# EAGLE library part MAX3267CSA+ (library MAX3267CSA+)
The MAX3266 is a transimpedance preamplifier for 1.25Gbps local area network (LAN) fiber optic receivers. The circuit features 200nA input-referred noise, 920MHz bandwidth, and 1mA input overload. Source: Datasheet <https://www.analog.com/media/en/technical-documentation/data-sheets/MAX3266-MAX3267.pdf>
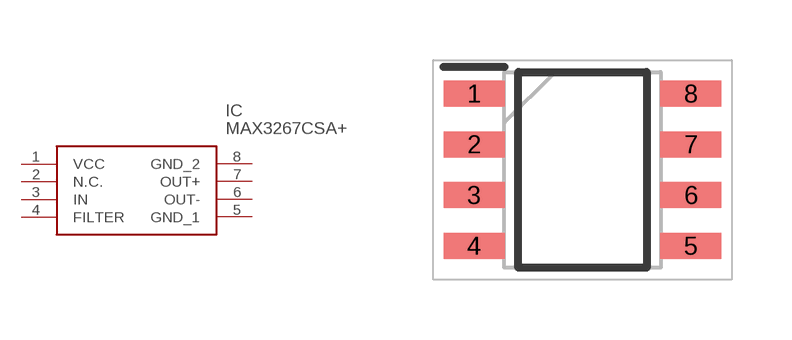
[diagram p0: symbol with the pads of SOIC127P600X175-8N; footprint SOIC127P600X175-8N]

Designator prefix IC

## MAX3267CSA+ (Description: The MAX3266 is a transimpedance preamplifier for 1.25Gbps local area network (LAN) fiber optic receivers. The circuit features 200nA input-referred noise, 920MHz bandwidth, and 1mA input overload.; Height: 1.75mm; Manufacturer_Name: Analog Devices; Manufacturer_Part_Number: MAX3267CSA+)  [SOIC127P600X175-8N]
1  VCC
2  N.C.  nc
3  IN
4  FILTER
5  GND_1
6  OUT-
7  OUT+
8  GND_2

## Footprint SOIC127P600X175-8N (pad centres in mm)
8 SO_2024
smd 1.525 x 0.65: 1 -2.712,1.905; 2 -2.712,0.635; 3 -2.712,-0.635; 4 -2.712,-1.905; 5 2.712,-1.905; 6 2.712,-0.635; 7 2.712,0.635; 8 2.712,1.905